# EAGLE library part L293 (library ICs)
PUSH-PULL FOUR CHANNEL DRIVER WITH DIODES
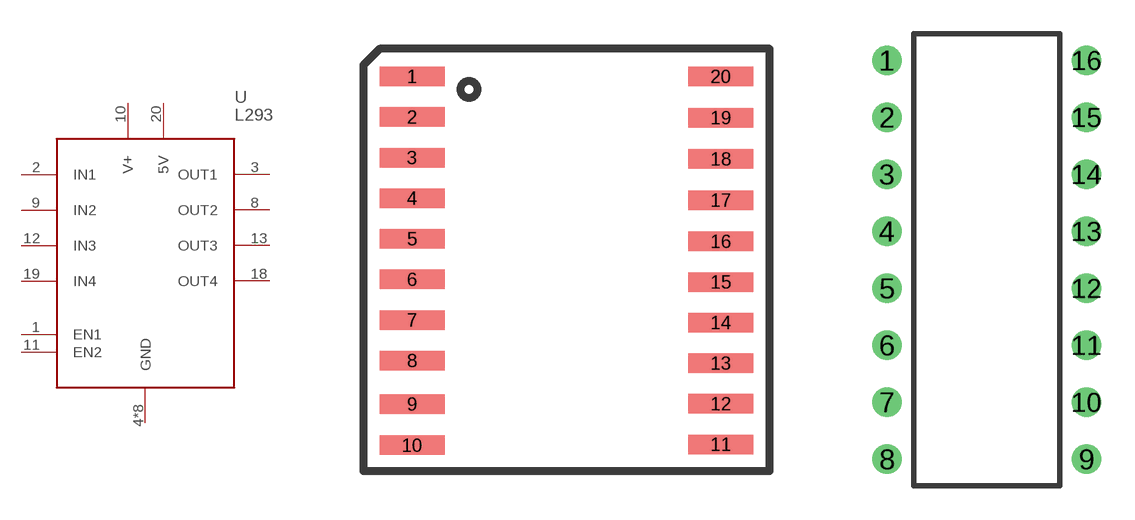
[diagram p79: symbol with the pads of SO20_7.5WIDE; footprints SO20_7.5WIDE, DIP16]

Designator prefix U

## L293  [SO20_7.5WIDE]
1  EN1
2  IN1
3  OUT1
4  GND
5  GND
6  GND
7  GND
8  OUT2
9  IN2
10  V+
11  EN2
12  IN3
13  OUT3
14  GND
15  GND
16  GND
17  GND
18  OUT4
19  IN4
20  5V

## L293NEE4 (FARNELL: 1210964; PRICE_PER: 2.91; VALUE: L293)  [DIP16]
1  EN1
2  IN1
3  OUT1
4  GND
5  GND
6  OUT2
7  IN2
8  5V
9  EN2
10  IN3
11  OUT3
12  GND
13  GND
14  OUT4
15  IN4
16  V+

## Footprint SO20_7.5WIDE (pad centres in mm)
smd 2 x 0.6: 1 -4.75,5.645; 2 -4.75,4.395; 3 -4.75,3.145; 4 -4.75,1.895; 5 -4.75,0.645; 6 -4.75,-0.605; 7 -4.75,-1.855; 8 -4.75,-3.105; 9 -4.75,-4.445; 10 -4.75,-5.715; 11 4.75,-5.685; 12 4.75,-4.435; 13 4.75,-3.185; 14 4.75,-1.935; 15 4.75,-0.685; 16 4.75,0.565; 17 4.75,1.835; 18 4.75,3.105; 19 4.75,4.375; 20 4.75,5.645

## Footprint DIP16 (pad centres in mm)
drill 0.8: 1 -4.445,8.89; 2 -4.445,6.35; 3 -4.445,3.81; 4 -4.445,1.27; 5 -4.445,-1.27; 6 -4.445,-3.81; 7 -4.445,-6.35; 8 -4.445,-8.89; 9 4.445,-8.89; 10 4.445,-6.35; 11 4.445,-3.81; 12 4.445,-1.27; 13 4.445,1.27; 14 4.445,3.81; 15 4.445,6.35; 16 4.445,8.89